# EAGLE library part CAT24C208 (library on-semiconductor)
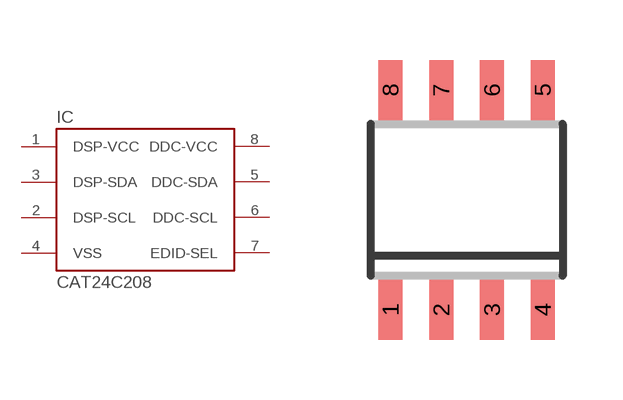
[diagram p0: symbol with the pads of SOIC8; footprint SOIC8]

Designator prefix IC

## CAT24C208  [SOIC8]
1  DSP-VCC  pwr
2  DSP-SCL
3  DSP-SDA
4  VSS  pwr
5  DDC-SDA
6  DDC-SCL
7  EDID-SEL
8  DDC-VCC  pwr

## Footprint SOIC8 (pad centres in mm)
SOIC-8 CASE 751-07 Source: http://www.onsemi.com/pub/Collateral/MC34164-D.PDF D (R-PDSO-G8)PLATIC SMALL-OUTLINE PACKAGE Source: http://focus.ti.com/lit/ds/symlink/tlc27l2.pdf
smd 0.6 x 1.5: 1 -1.905,-2.75; 2 -0.635,-2.75; 3 0.635,-2.75; 4 1.905,-2.75; 5 1.905,2.75; 6 0.635,2.75; 7 -0.635,2.75; 8 -1.905,2.75